# Altium footprint library 43025-1800.PcbLib: 1 footprints
Each footprint in its own frame and in the unit in brackets; x right, y up, seen from the top. Pads: shape width x height; smd on the part's side, far side on the other; paste and mask are expansions set on the pad; w line width, h text height; cw(c..) or ccw(c..) is an arc to the next point about the centre after c.
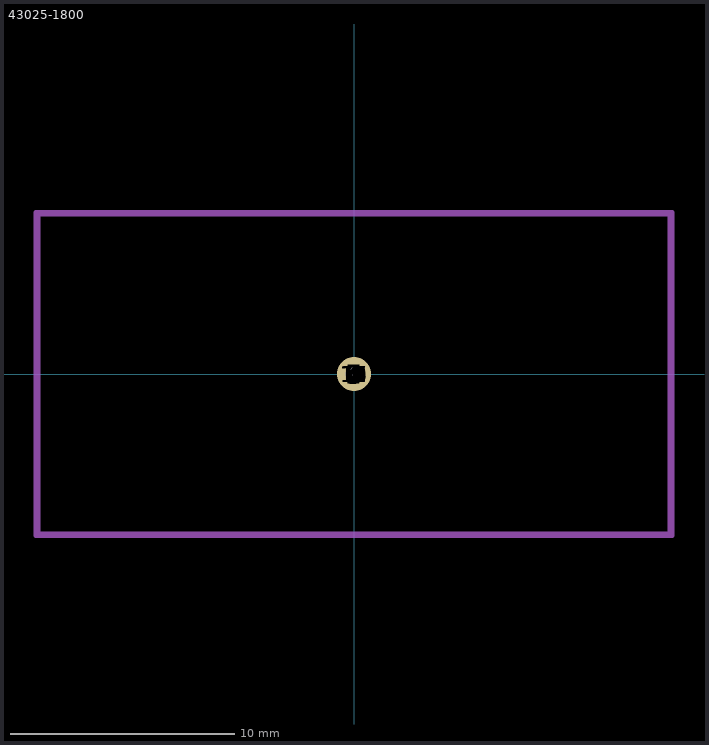
[diagram p0: the footprint, top view; thin cyan lines are the x and y axes]

## 43025-1800 [mil]
pads (18):
  round 60 hole 30: 1(0,0) 2(0,0) 3(0,0) 4(0,0) 5(0,0) 6(0,0) 7(0,0) 8(0,0) 9(0,0) 10(0,0) 11(0,0) 12(0,0) 13(0,0) 14(0,0) 15(0,0) 16(0,0) 17(0,0) 18(0,0)
Top Assembly:
  lines w7.87: -559.06,-284.45 559.06,-284.45 559.06,284.45 -559.06,284.45 -559.06,-284.45
Top 3D Body:
  lines w7.87: -555.12,-280.51 555.12,-280.51 555.12,280.51 -555.12,280.51 -555.12,-280.51
Top Courtyard:
  lines w7.87: -559.06,-284.45 559.06,-284.45 559.06,284.45 -559.06,284.45 -559.06,-284.45
Top Component Center:
  lines w3.94: -19.68,0 19.68,0 ; 0,-19.68 0,19.68
3D body "Conn_Molex_43025-1800_eec.STEP": height 10, standoff 0, extent -559.06,-284.45 559.06,284.45